# Altium integrated library XTAL_Crystal.IntLib: 2 symbols
Pins are listed as number, name and electrical type; pins without a type are passive.

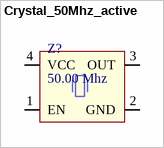
[diagram p0: symbol Crystal_50Mhz_active]

## Crystal_50Mhz_active
designator Z?, comment 50.00 Mhz
footprint 50.00Mhz active quartz
pins: 1 EN, 2 GND, 3 OUT, 4 VCC


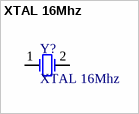
[diagram p1: symbol XTAL 16Mhz]

## XTAL 16Mhz
designator Y?
footprint HC49
footprint HC-49_SMD
footprint HC-49_THD
pins: 1, 2